# EAGLE library part NUCLEOF103 (library customy)
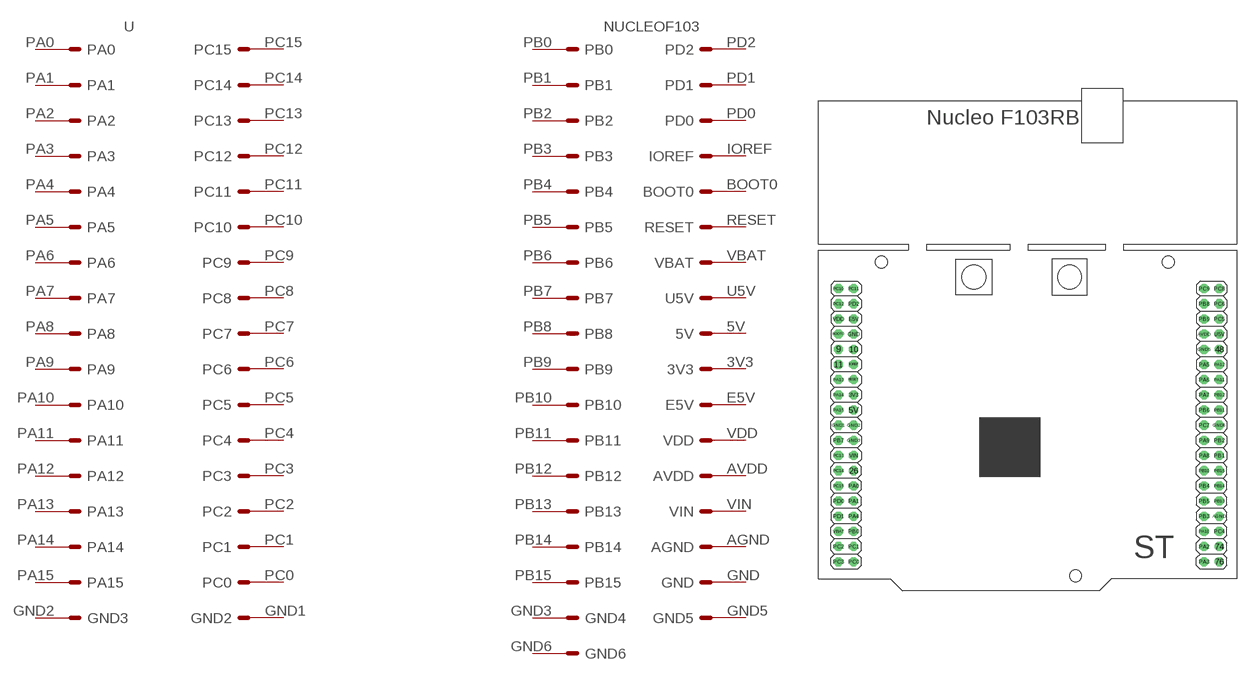
[diagram p6: symbol with the pads of NUCLEO; footprint NUCLEO]

Designator prefix -

## NUCLEOF103  [NUCLEO]
3V3  3V3
5V  5V
AGND  AGND
AVDD  AVDD
BOOT0  BOOT0
E5V  E5V
GND  GND
GND1  GND2
GND2  GND3
GND3  GND4
GND5  GND5
GND6  GND6
IOREF  IOREF
PA0  PA0
PA1  PA1
PA2  PA2
PA3  PA3
PA4  PA4
PA5  PA5
PA6  PA6
PA7  PA7
PA8  PA8
PA9  PA9
PA10  PA10
PA11  PA11
PA12  PA12
PA13  PA13
PA14  PA14
PA15  PA15
PB0  PB0
PB1  PB1
PB2  PB2
PB3  PB3
PB4  PB4
PB5  PB5
PB6  PB6
PB7  PB7
PB8  PB8
PB9  PB9
PB10  PB10
PB11  PB11
PB12  PB12
PB13  PB13
PB14  PB14
PB15  PB15
PC0  PC0
PC1  PC1
PC2  PC2
PC3  PC3
PC4  PC4
PC5  PC5
PC6  PC6
PC7  PC7
PC8  PC8
PC9  PC9
PC10  PC10
PC11  PC11
PC12  PC12
PC13  PC13
PC14  PC14
PC15  PC15
PD0  PD0
PD1  PD1
PD2  PD2
RESET  RESET
U5V  U5V
VBAT  VBAT
VDD  VDD
VIN  VIN

## Footprint NUCLEO (pad centres in mm)
PIN HEADER
drill 1.016 octagon: 3V3 -27.25,-4.52; 5V -27.25,-7.06; 9 -29.79,3.1; 10 -27.25,3.1; 11 -29.79,0.56; 26 -27.25,-17.22; 48 33.95,3.1; 74 33.95,-29.92; 76 33.95,-32.46; AGND 33.95,-24.84; AVDD 31.41,5.64; BOOT0 -29.79,5.64; E5V -27.25,8.18; GND -27.25,5.64; GND1 -29.79,-9.6; GND2 -27.25,-9.6; GND3 -27.25,-12.14; GND5 31.41,3.1; GND6 33.95,-9.6; IOREF -27.25,0.56; PA0 -27.25,-19.76; PA1 -27.25,-22.3; PA2 31.41,-29.92; PA3 31.41,-32.46; PA4 -27.25,-24.84; PA5 31.41,0.56; PA6 31.41,-1.98; PA7 31.41,-4.52; PA8 31.41,-14.68; PA9 31.41,-12.14; PA10 31.41,-27.38; PA11 33.95,-1.98; PA12 33.95,0.56; PA13 -29.79,-1.98; PA14 -29.79,-4.52; PA15 -29.79,-7.06; PB0 -27.25,-27.38; PB1 33.95,-14.68; PB2 33.95,-12.14; PB3 31.41,-24.84; PB4 31.41,-19.76; PB5 31.41,-22.3; PB6 31.41,-7.06; PB7 -29.79,-12.14; PB8 31.41,10.72; PB9 31.41,8.18; PB10 31.41,-17.22; PB11 33.95,-7.06; PB12 33.95,-4.52; PB13 33.95,-22.3; PB14 33.95,-19.76; PB15 33.95,-17.22; PC0 -27.25,-32.46; PC1 -27.25,-29.92; PC2 -29.79,-29.92; PC3 -29.79,-32.46; PC4 33.95,-27.38; PC5 33.95,8.18; PC6 33.95,10.72; PC7 31.41,-9.6; PC8 33.95,13.26; PC9 31.41,13.26; PC10 -29.79,13.26; PC11 -27.25,13.26; PC12 -29.79,10.72; PC13 -29.79,-14.68; PC14 -29.79,-17.22; PC15 -29.79,-19.76; PD0 -29.79,-22.3; PD1 -29.79,-24.84; PD2 -27.25,10.72; RESET -27.25,-1.98; U5V 33.95,5.64; VBAT -29.79,-27.38; VDD -29.79,8.18; VIN -27.25,-14.68